# Altium schematic symbol library Relays.SchLib: 16 symbols
Pins are listed as number, name and electrical type; pins without a type are passive.

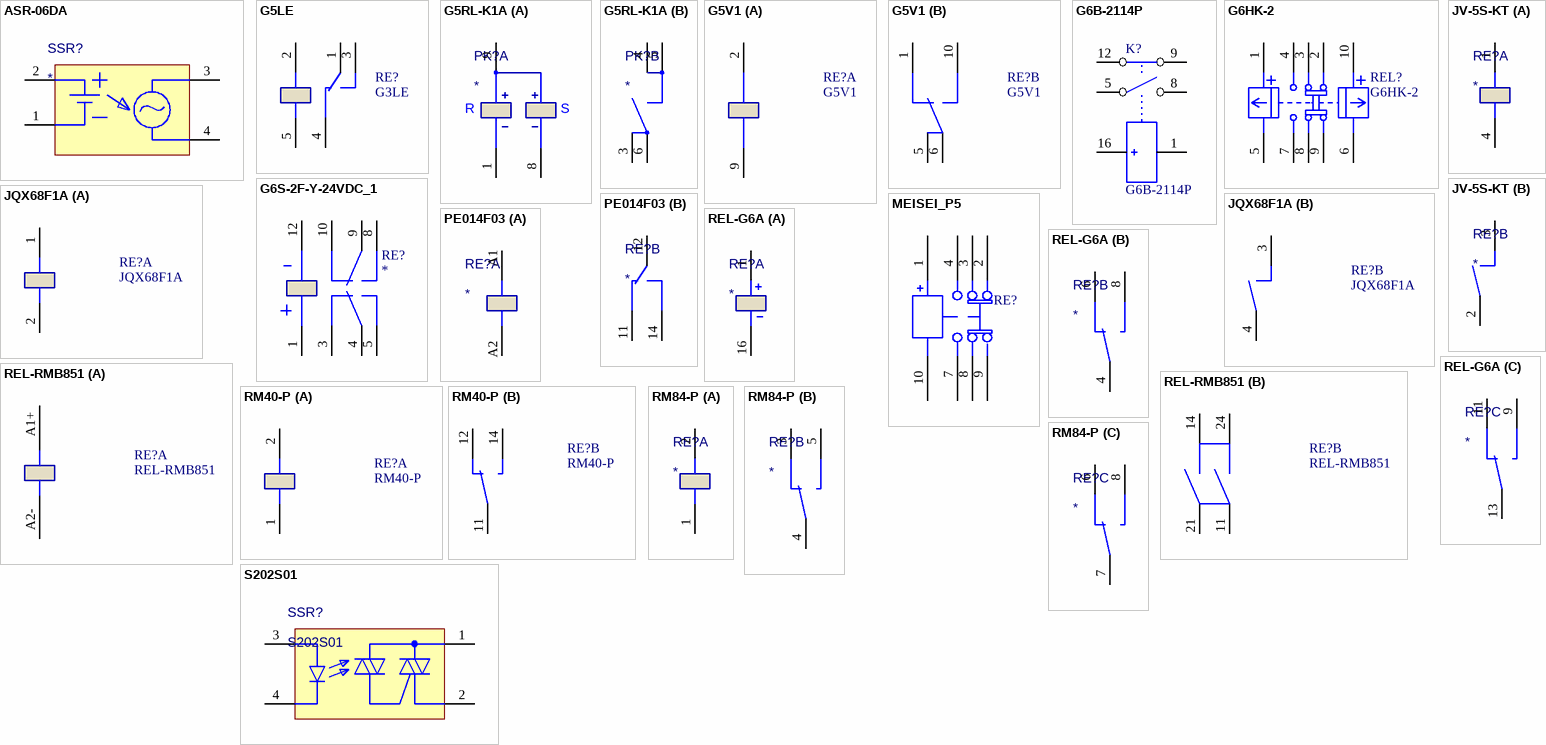
[diagram p0: symbols ASR-06DA to S202S01]

## ASR-06DA
designator SSR?
Value: ASR-06DA
pins: 1 MINUS, 2 PLUS, 3 AC1, 4 AC2

## G5LE
designator RE?, comment G3LE
Value: G3LE
footprint G5LE
pins: 1, 2, 3, 4, 5

## G5RL-K1A
designator PK?
Value: *
part A pins: 1, 8, 9
part B pins: 3, 4, 5, 6
part A text: R; S

## G5V1
designator RE?
Value: G5V1
footprint G5V1 (Footprint not found)
part A pins: 2, 9
part B pins: 1, 5, 6, 10

## G6B-2114P
designator K?
Value: G6B-2114P
pins: 1, 5, 8, 9, 12, 16

## G6HK-2
designator REL?
Value: G6HK-2
footprint 10DIP300
pins: 1, 2, 3, 4, 5, 6, 7, 8, 9, 10

## G6S-2F-Y-24VDC_1
designator RE?
footprint G6S-2F
pins: 1, 3, 4, 5, 8, 9, 10, 12

## JQX68F1A
designator RE?
Value: JQX68F1A
part A pins: 1, 2
part B pins: 3, 4

## JV-5S-KT
designator RE?
Value: *
part A pins: 1, 4
part B pins: 2 COM, 3 NO

## MEISEI_P5
designator RE?  (value not drawn)
Value: MEISEI_P5
pins: 1, 2, 3, 4, 7, 8, 9, 10

## PE014F03
designator RE?
Value: *
part A pins: A1, A2
part B pins: 11, 12, 14

## REL-G6A
designator RE?
Value: *
part A pins: 1 A+, 16 A-
part B pins: 4 21, 6 22, 8 24
part C pins: 9, 11, 13

## REL-RMB851
designator RE?
Value: REL-RMB851
footprint G5V1 (Footprint not found)
part A pins: A1+ A1, A2-
part B pins: 11, 14, 21, 24

## RM40-P
designator RE?
Value: RM40-P
part A pins: 1 A1, 2 A2
part B pins: 11, 12, 14

## RM84-P
designator RE?
Value: *
part A pins: 1 A1, 2 A2
part B pins: 3 22, 4 21, 5 24
part C pins: 6 12, 7 11, 8 14

## S202S01
designator SSR?
Value: S202S01
pins: 1, 2, 3, 4